# Altium integrated library Linear Technology PMIC-Switching Reg LTC1174-LTC3901.IntLib: 2647 symbols (part 116 of 310)
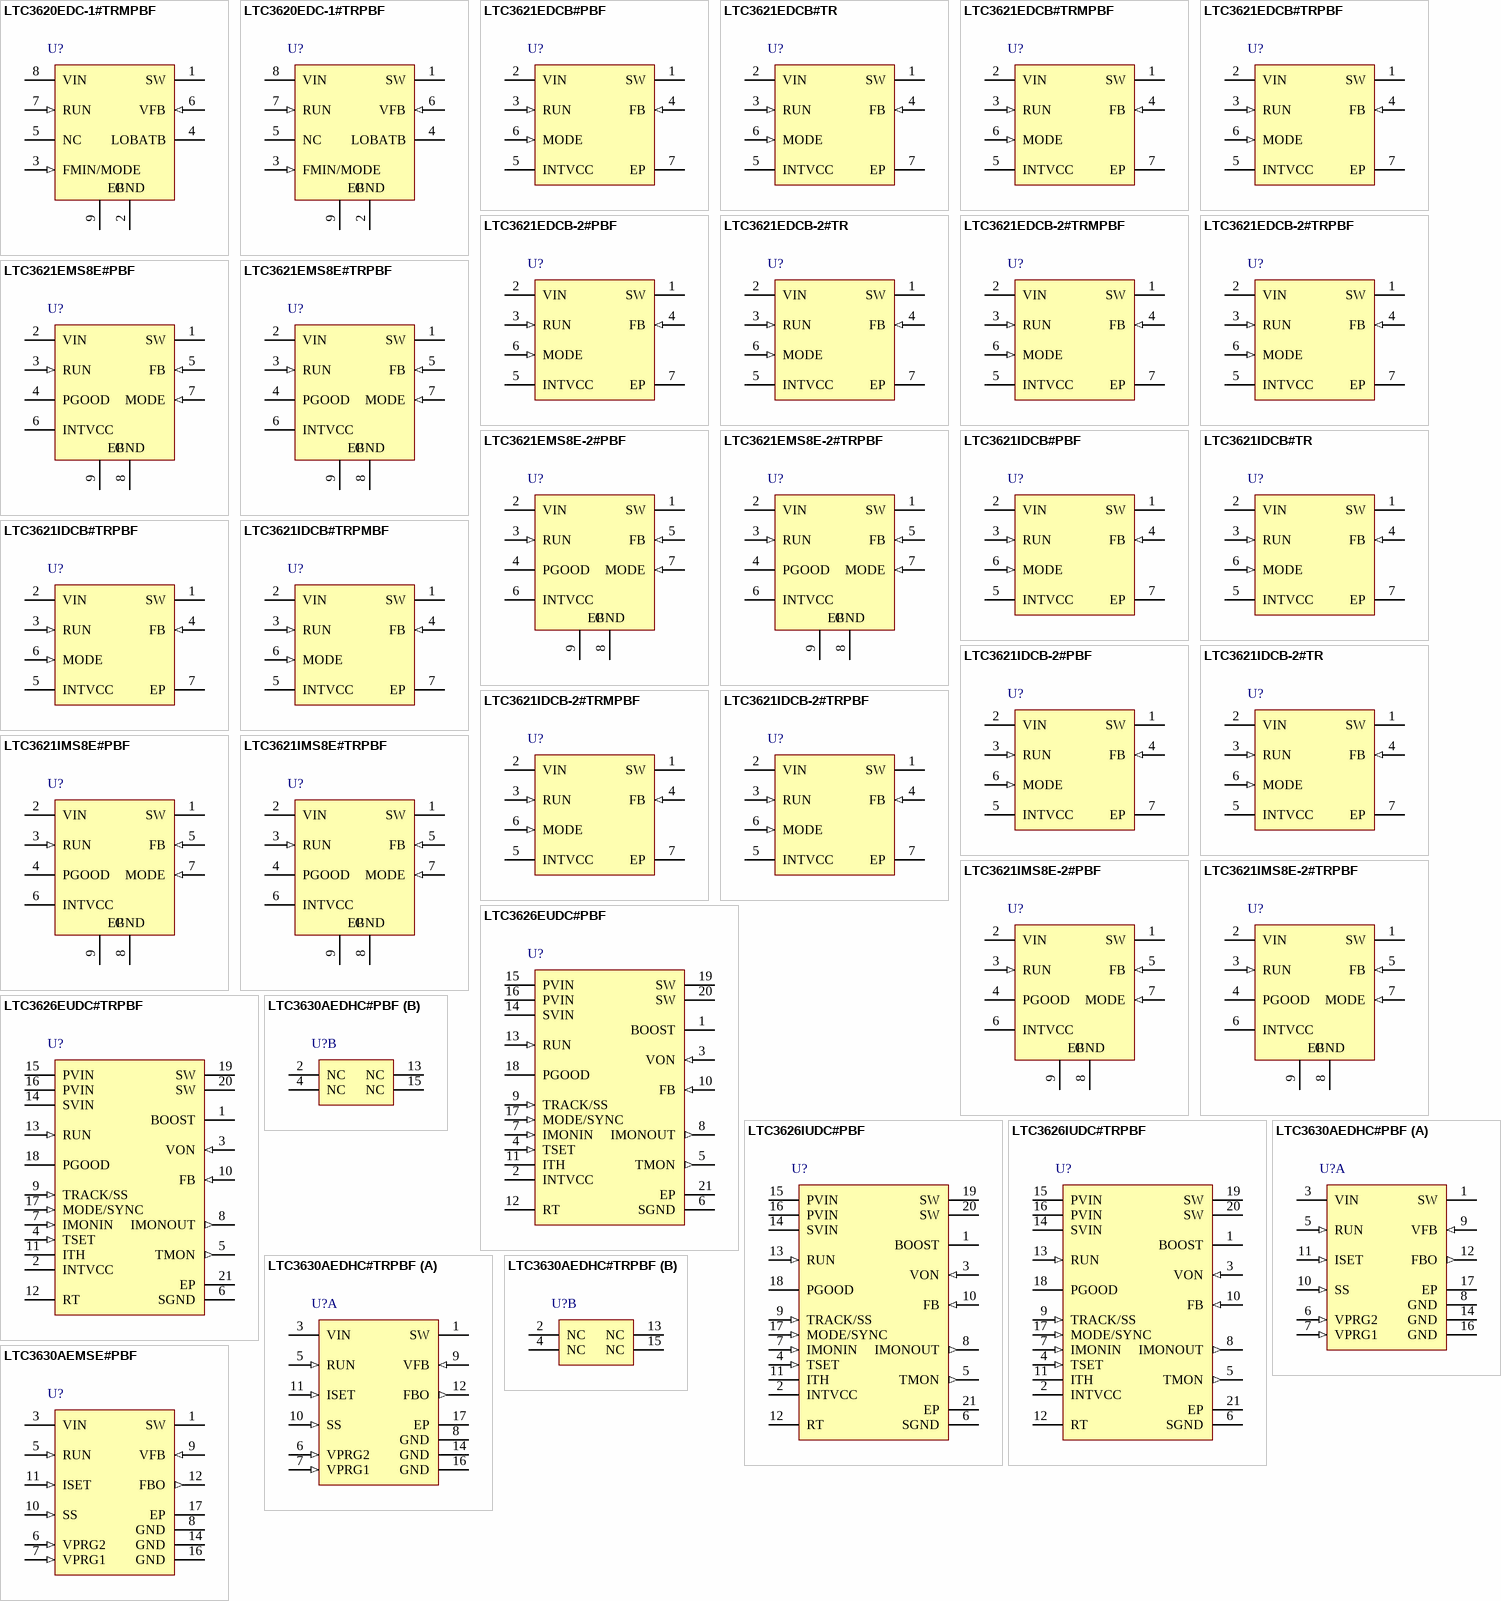
[diagram p282: symbols LTC3620EDC-1#TRMPBF to LTC3630AEMSE#PBF]

## LTC3630AEMSE#PBF
designator U?
High Efficiency, 500 mA Step-Down Converter, 16-pin SOP (MSE-16-V(12)4PR-EDP), -40 to 125 degC, Pb-Free; Manufacturer: Linear Technology; PartNumber: LTC3630AEMSE#PBF; Number of Outputs: 1; PackageReference: MSE-16; PackageDescription: 12-Pin Plastic MSOP, Exposed Die Pad, Body 4.039 x 3 mm, Pitch 0.5 mm; Supplier 1: Digi-Key; Supplier Part Number 1: LTC3630AEMSE#PBF-ND; RoHS: TRUE
footprint LT-MSE-16-V(12)4PR-EDP_N (SOP, 12-Leads, Body 4.1x3.1mm, Pitch 0.5mm, Thermal Pad 1.76x2.95mm, IPC Medium Density)
footprint LT-MSE-16-V(12)4PR-EDP_L (SOP, 12-Leads, Body 4.1x3.1mm, Pitch 0.5mm, Thermal Pad 1.76x2.95mm, IPC High Density)
footprint LT-MSE-16-V(12)4PR-EDP_M (SOP, 12-Leads, Body 4.1x3.1mm, Pitch 0.5mm, Thermal Pad 1.76x2.95mm, IPC Low Density)
pins: 1 SW (power) "Switch Node Connection to Inductor. This pin connects to the drains of the internal power MOSFET switches.", 3 VIN (power) "Main Input Supply Pin. A ceramic bypass capacitor should be tied between this pin and GND.", 5 RUN (in) "Run Control Input. A voltage on this pin above 1.21V enables normal operation. Forcing this pin below 0.7V shuts down the LTC3630, reducing quiescent current to approximately 5uA. Optionally, connect to the input supply (See Datasheet)", 6 VPRG2 (in) "Output Voltage Selection. Short both pins to ground for an external resistive divider programmable output voltage. Short VPRG1 to SS and short VPRG2 to ground for a 5V output voltage. Short VPRG1 to ground and short VPRG2 to (See Datasheet)", 7 VPRG1 (in) "Output Voltage Selection. Short both pins to ground for an external resistive divider programmable output voltage. Short VPRG1 to SS and short VPRG2 to ground for a 5V output voltage. Short VPRG1 to ground and short VPRG2 to (See Datasheet)", 8 GND (power) "Ground. The exposed backside pad must be soldered to the PCB ground plane for optimal thermal performance.", 9 VFB (in) "Output Voltage Feedback. When configured for an adjustable output voltage, connect to an external resistive divider to divide the output voltage down for comparison to the 0.8V reference. For the fixed output configuration, (See Datasheet)", 10 SS (in) "Soft-Start Control Input. A capacitor to ground at this pin sets the output voltage ramp time. A 50uA current initially charges the soft-start capacitor until switching begins, at which time the current is reduced to its (See Datasheet)", 11 ISET (in) "Peak Current Set Input and Voltage Output Ripple Filter. A resistor from this pin to ground sets the peak current comparator threshold. Leave floating for the maximum peak current (1.2A typical) or short to ground for (See Datasheet)", 12 FBO (out) "Feedback Comparator Output. Connect to the VFB pins of additional LTC3630s to combine the output current. The typical pull-up current is 20uA. The typical pull- down impedance is 70 ohm. See Applications Information.", 14 GND (power) "Ground. The exposed backside pad must be soldered to the PCB ground plane for optimal thermal performance.", 16 GND (power) "Ground. The exposed backside pad must be soldered to the PCB ground plane for optimal thermal performance.", 17 EP (power) "Ground. The exposed backside pad must be soldered to the PCB ground plane for optimal thermal performance."

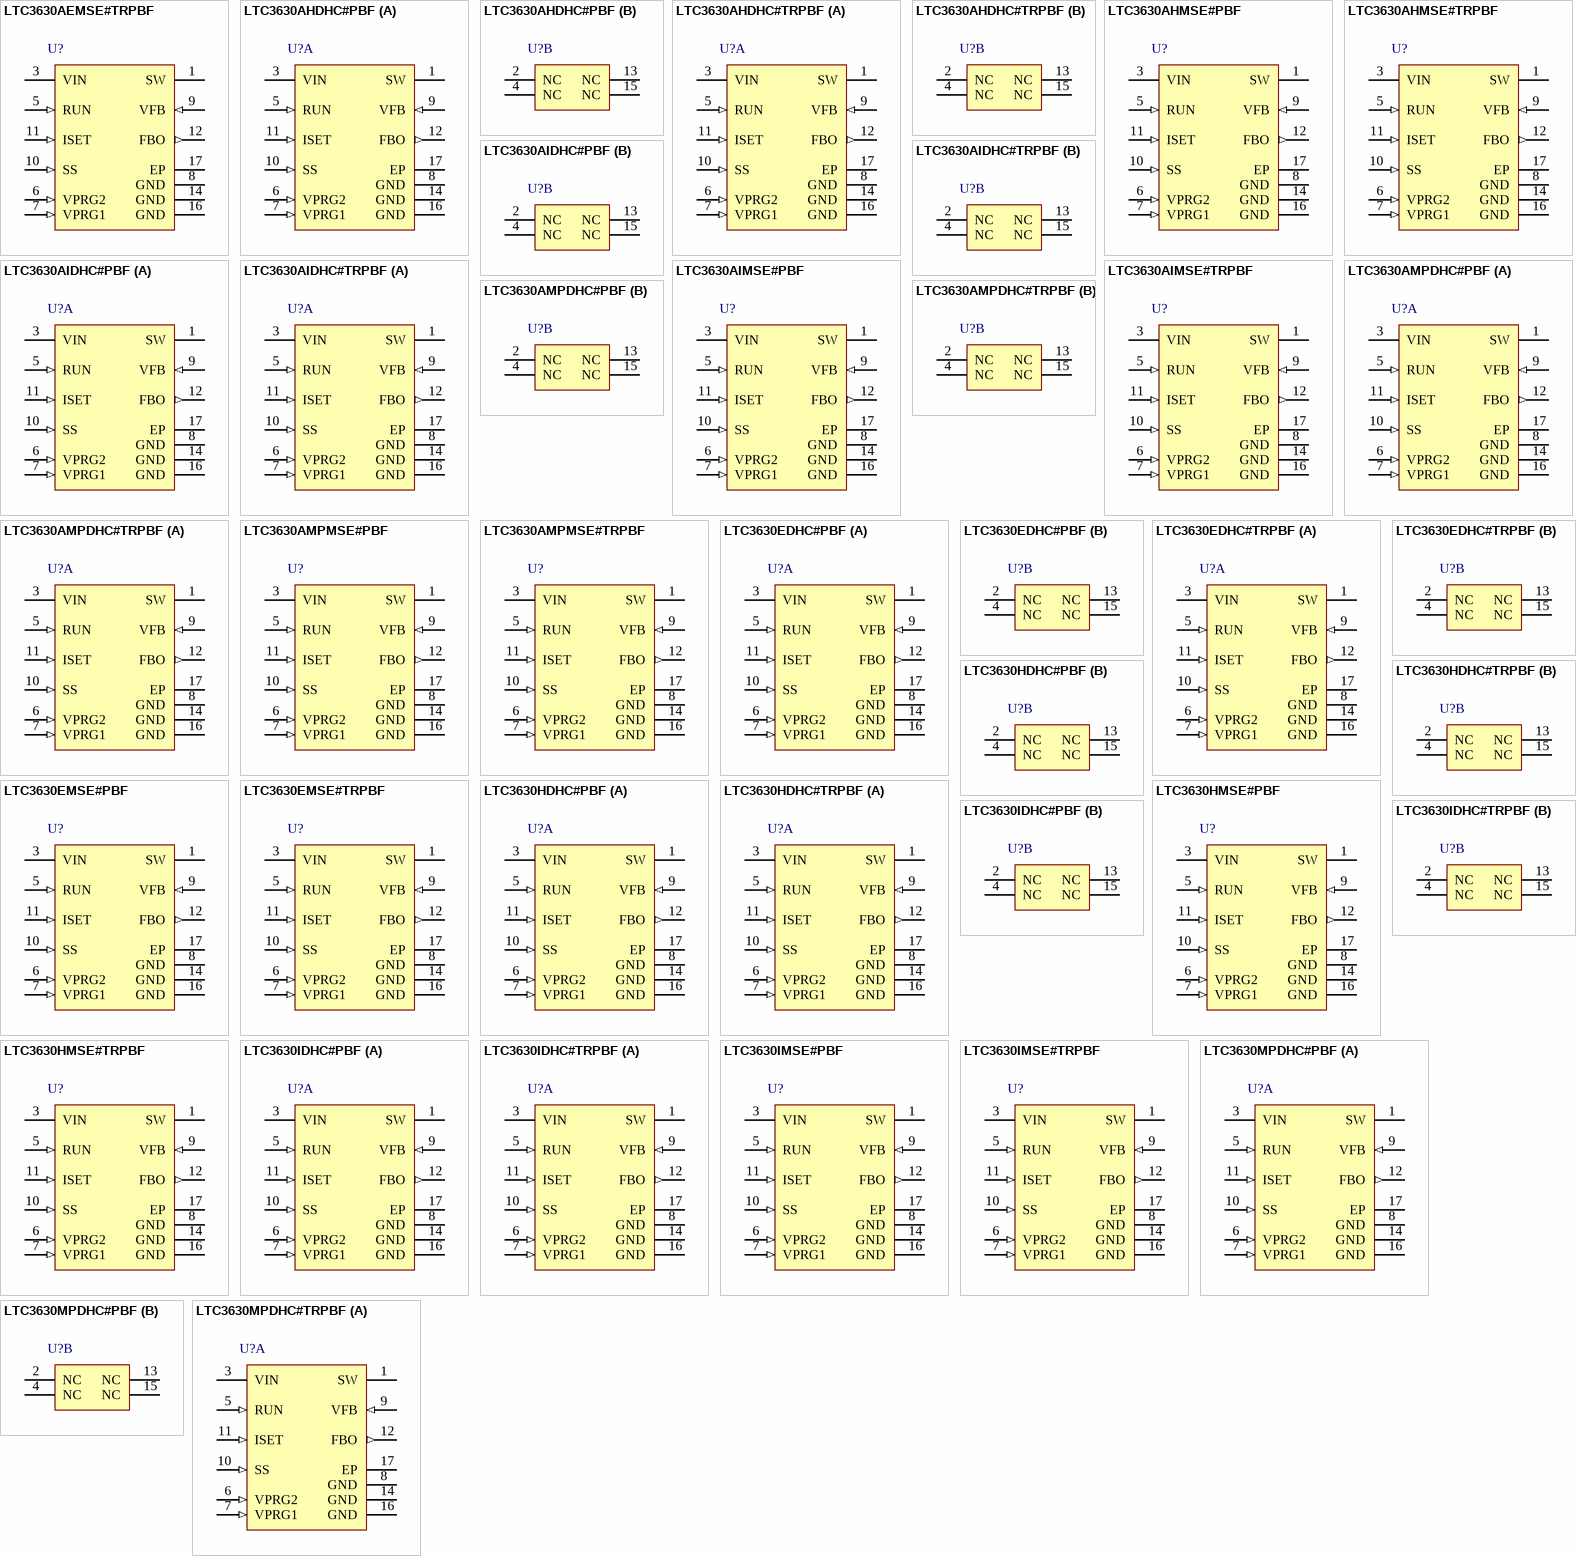
[diagram p42: symbols LTC3630AEMSE#TRPBF to LTC3630MPDHC#TRPBF]